# EAGLE library part MRF24WG0MA/MB (library microchip)
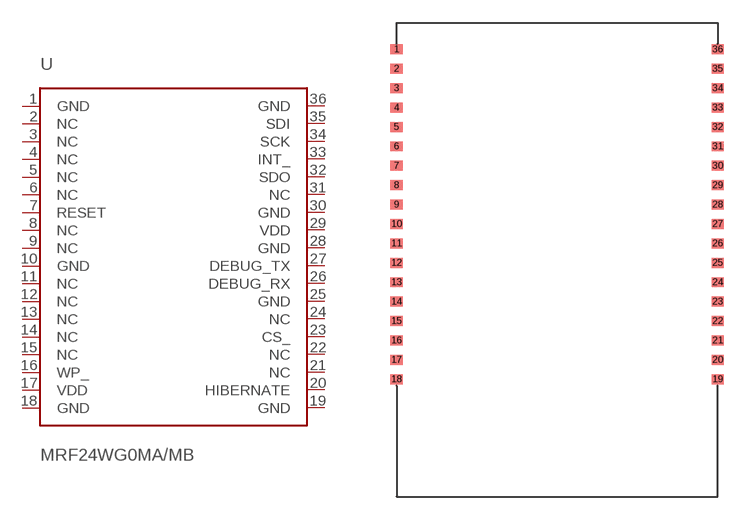
[diagram p1: symbol with the pads of MRF24; footprint MRF24]

Designator prefix -

## MRF24WG0MA/MB  [MRF24]
1  GND
2  NC
3  NC
4  NC
5  NC
6  NC
7  RESET
8  NC
9  NC
10  GND
11  NC
12  NC
13  NC
14  NC
15  NC
16  WP_
17  VDD
18  GND
19  GND
20  HIBERNATE
21  NC
22  NC
23  CS_
24  NC
25  GND
26  DEBUG_RX
27  DEBUG_TX
28  GND
29  VDD
30  GND
31  NC
32  SDO
33  INT_
34  SCK
35  SDI
36  GND

## Footprint MRF24 (pad centres in mm)
smd 0.8 x 0.65: 1 -10.5,13.77; 2 -10.5,12.5; 3 -10.5,11.23; 4 -10.5,9.96; 5 -10.5,8.69; 6 -10.5,7.42; 7 -10.5,6.15; 8 -10.5,4.88; 9 -10.5,3.61; 10 -10.5,2.34; 11 -10.5,1.07; 12 -10.5,-0.2; 13 -10.5,-1.47; 14 -10.5,-2.74; 15 -10.5,-4.01; 16 -10.5,-5.28; 17 -10.5,-6.55; 18 -10.5,-7.82; 19 10.5,-7.82; 20 10.5,-6.55; 21 10.5,-5.28; 22 10.5,-4.01; 23 10.5,-2.74; 24 10.5,-1.47; 25 10.5,-0.2; 26 10.5,1.07; 27 10.5,2.34; 28 10.5,3.61; 29 10.5,4.88; 30 10.5,6.15; 31 10.5,7.42; 32 10.5,8.69; 33 10.5,9.96; 34 10.5,11.23; 35 10.5,12.5; 36 10.5,13.77